# EAGLE library part MS5803 (library ijrobotics)
MS5803 Pressure sensor, sensor de presion. VUG y TOPOBOT
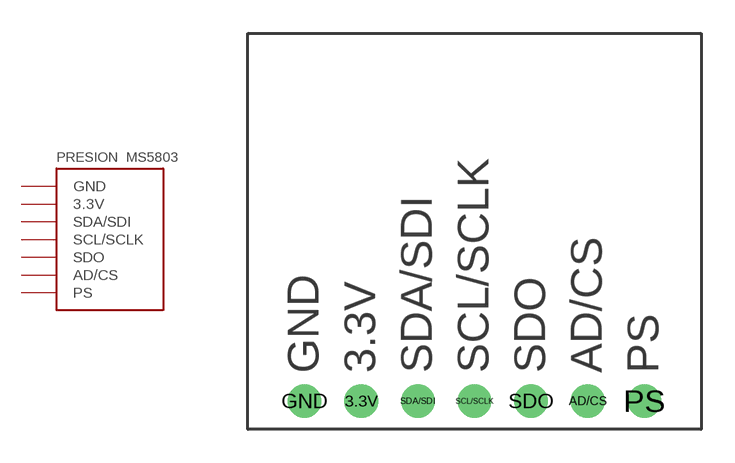
[diagram p19: symbol with the pads of MS5803; footprint MS5803]

Designator prefix -

## MS5803  [MS5803]
3.3V  3.3V
AD/CS  AD/CS
GND  GND
PS  PS
SCL/SCLK  SCL/SCLK
SDA/SDI  SDA/SDI
SDO  SDO

## Footprint MS5803 (pad centres in mm)
MS5803 Pressure sensor, sensor de presion. VUG y TOPOBOT
drill 1: 3.3V 5.08,1.27; AD/CS 15.24,1.27; GND 2.54,1.27; PS 17.78,1.27; SCL/SCLK 10.16,1.27; SDA/SDI 7.62,1.27; SDO 12.7,1.27